# Altium schematic symbol library mech_switch.SchLib: 13 symbols
Pins are listed as number, name and electrical type; pins without a type are passive.

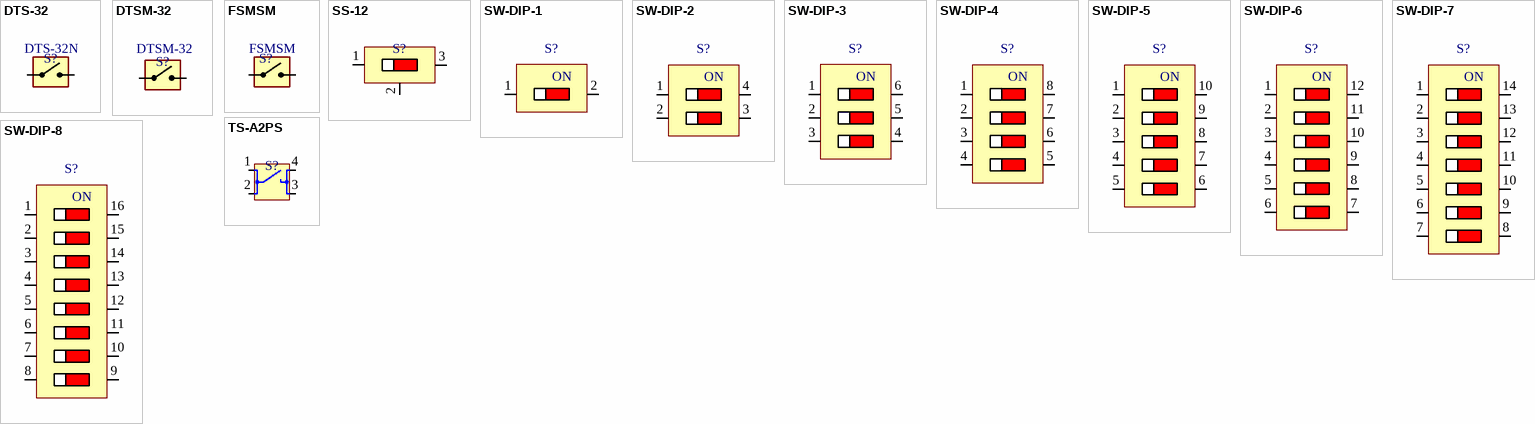
[diagram p0: symbols DTS-32 to TS-A2PS]

## DTS-32
designator S?, comment Name: DTS-32N  (hidden comment: 5 mm)
Button DTS-32; Manufacturer: Switronic Industrial; Power/Voltage: 50V; ManufacturerPartNumber: DTS-32N; Type: mech-button; Value: 5 mm; Tolerance: *; RevisionDate: 20-12-2018; Package: DTS
footprint BTN-DTS-32-5.0
pins: 1, 2

## DTSM-32
designator S?, comment Name: DTSM-32  (hidden comment: 5 mm)
Button DTSM-32; Manufacturer: DIPTRONICS; ManufacturerPartNumber: DTSM-32N; Power/Voltage: 50V; Type: mech-switch; Value: 5 mm; Tolerance: *; RevisionDate: 20-12-2018; Package: DTSM
footprint BTN-DTSM-32-5.0
pins: 1, 2

## FSMSM
designator S?, comment Name: FSMSM  (hidden comment: 4.6 mm)
Button FSMSM; Manufacturer: TE Connectivity; ManufacturerPartNumber: 1437566-3; Power/Voltage: 50V; Type: mech-switch; Value: 4.6 mm; Tolerance: *; RevisionDate: 20-12-2018; Package: FSMSM
footprint BTN-FSMSM-2.5
pins: 1, 2

## SS-12
designator S?
Slide Switch 3pin; Name: KLS7-SS03-12D; LatestRevisionDate: 11-01-2018
footprint SS03-12
footprint SS03-12D01
footprint SS03-12D02
pins: 1, 2, 3

## SW-DIP-1
designator S?
DIP Switch; Name: *; LatestRevisionDate: 11-01-2018
footprint DIPSW-1
footprint DIPSW-R1
pins: 1, 2
text: ON

## SW-DIP-2
designator S?
DIP Switch; Name: *; LatestRevisionDate: 11-01-2018
footprint DIPSW-2
footprint DIPSW-R2
pins: 1, 2, 3, 4
text: ON

## SW-DIP-3
designator S?
DIP Switch; Name: *; LatestRevisionDate: 11-01-2018
footprint DIPSW-3
footprint DIPSW-R3
pins: 1, 2, 3, 4, 5, 6
text: ON

## SW-DIP-4
designator S?
DIP Switch; Name: *; LatestRevisionDate: 11-01-2018
footprint DIPSW-4
footprint DIPSW-R4
pins: 1, 2, 3, 4, 5, 6, 7, 8
text: ON

## SW-DIP-5
designator S?
DIP Switch; Name: *; LatestRevisionDate: 11-01-2018
footprint DIPSW-5
footprint DIPSW-R5
pins: 1, 2, 3, 4, 5, 6, 7, 8, 9, 10
text: ON

## SW-DIP-6
designator S?
DIP Switch; Name: *; LatestRevisionDate: 11-01-2018
footprint DIPSW-6
footprint DIPSW-R6
pins: 1, 2, 3, 4, 5, 6, 7, 8, 9, 10, 11, 12
text: ON

## SW-DIP-7
designator S?
DIP Switch; Name: *; LatestRevisionDate: 11-01-2018
footprint DIPSW-7
footprint DIPSW-R7
pins: 1, 2, 3, 4, 5, 6, 7, 8, 9, 10, 11, 12, 13, 14
text: ON

## SW-DIP-8
designator S?
DIP Switch; Name: *; LatestRevisionDate: 11-01-2018
footprint DIPSW-8
footprint DIPSW-R8
pins: 1, 2, 3, 4, 5, 6, 7, 8, 9, 10, 11, 12, 13, 14, 15, 16
text: ON

## TS-A2PS
designator S?
Button 4P through-hole; Name: *; LatestRevisionDate: 11-01-2018
footprint BTN-TS-A1PS-4.3
footprint BTN-TS-A2PS-5.0
footprint BTN-TS-A3PS-7.0
footprint BTN-TS-A4PS-9.5
footprint BTN-TS-A6PS-13
pins: 1, 2, 3, 4